# EAGLE library part MICROMATCH_6 (library @Club_connectique)
Connecteur type AMP-Micromatch-6 Références fabricant (Tyco Electronics) : - femelle : Female Top Entry 215079-6 - mâle : Male Wire-To-Board 215083-6 Références fournisseur (TME, Pologne) : - femelle : AMP-7-215079-6 - mâle : AMP-7-215083-6 /!\ NOTE /!\ * La pastille de cuivre ovale sur le côté indique l'emplacement du perçage pour le détrompage.
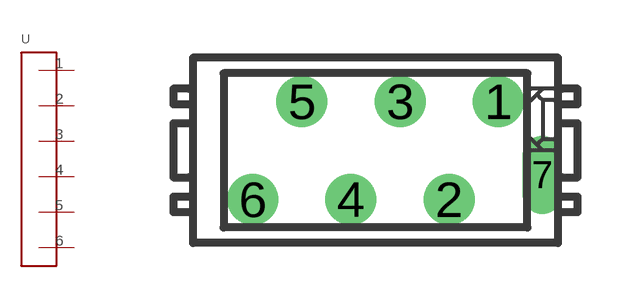
[diagram p1: symbol with the pads of MICROMATCH-6; footprint MICROMATCH-6]

Designator prefix -

## MICROMATCH_6  [MICROMATCH-6]
1  P$1
2  P$2
3  P$3
4  P$4
5  P$5
6  P$6

## Footprint MICROMATCH-6 (pad centres in mm)
MicroMaTch 6 7-215464-6 / 0-215464-6 Drawing Number C-215464 DDEController.pdf
drill 0.813: 1 3.175,1.27; 2 1.905,-1.27; 3 0.635,1.27; 4 -0.635,-1.27; 5 -1.905,1.27; 6 -3.175,-1.27
drill 0.381 pad 1.016 long: 7 4.318,-0.635